# Altium footprint library PcbLib2.PcbLib: 2 footprints
Each footprint in its own frame and in the unit in brackets; x right, y up, seen from the top. Pads: shape width x height; smd on the part's side, far side on the other; paste and mask are expansions set on the pad; w line width, h text height; cw(c..) or ccw(c..) is an arc to the next point about the centre after c.
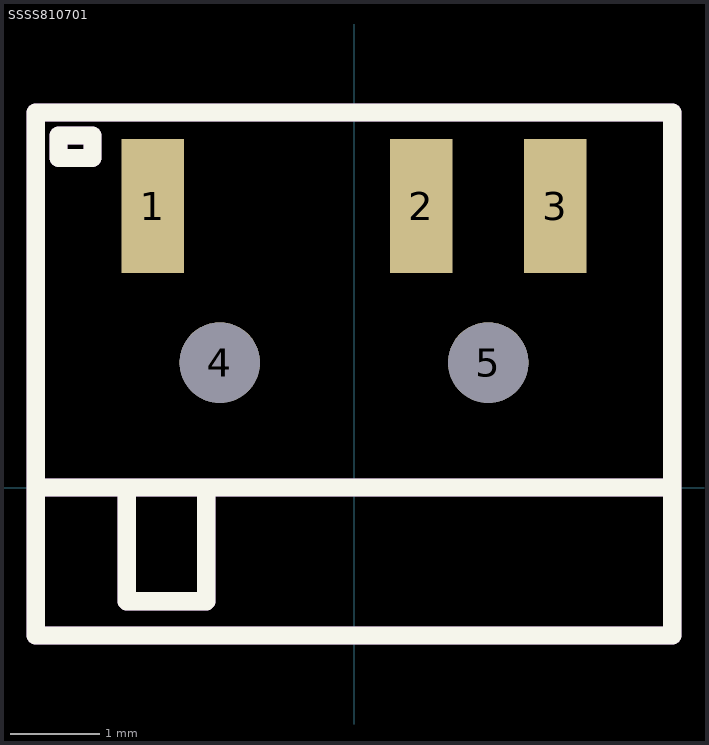
[diagram p0: the footprints below, top view; thin cyan lines are the x and y axes]

## PCBComponent_1 [mm]

## SSSS810701 [mm]
height 1.4
pads (5):
  rect 0.7x1.5 smd: 1(-2.25,3.147) 2(0.75,3.147) 3(2.25,3.147)
  round 0.9 hole 0.9 unplated: 4(-1.5,1.397) 5(1.5,1.397)
Top Overlay:
  lines w0.203: -3.556,0 3.556,0 ; -2.54,0 -2.54,-1.27 -1.651,-1.27 -1.651,0 ; -3.556,-1.651 -3.556,4.191 3.556,4.191 3.556,-1.397 3.556,-1.651 -3.556,-1.651 ; -3.302,3.683 -3.302,3.937 -2.921,3.937 -2.921,3.683 -3.302,3.683
  text ".Designator" at -3.556,4.572 h0.76
Mechanical 2:
  lines w0.203: -3.556,-1.651 -3.556,4.191 ; -3.556,-1.651 3.556,-1.651 ; -3.556,-1.651 3.556,-1.651 ; -3.556,-1.651 -3.556,4.191 ; -3.556,4.191 3.556,4.191 ; -3.556,4.191 3.556,4.191 ; -3.302,3.683 -3.302,3.937 ; -3.302,3.683 -2.921,3.683 ; -3.302,3.683 -2.921,3.683 ; -3.302,3.683 -3.302,3.937 ; -3.302,3.937 -2.921,3.937 ; -3.302,3.937 -2.921,3.937 ; -2.921,3.683 -2.921,3.937 ; -2.921,3.683 -2.921,3.937 ; -2.54,-1.27 -1.651,-1.27 ; -2.54,-1.27 -2.54,0 -2.54,-1.27 ; -2.54,-1.27 -1.651,-1.27 ; -1.651,-1.27 -1.651,0 -1.651,-1.27 ; 3.556,-1.651 3.556,-1.397 ; 3.556,-1.397 3.556,4.191 ; 3.556,-1.397 3.556,4.191 ; -3.556,0 3.556,0 -3.556,0
3D body: height 1.4, standoff -0.5, extent -3.35,-1.403 3.35,3.597